# Altium footprint library SAMTEC_TFM-110-21-S-D.PcbLib: 1 footprints
Each footprint in its own frame and in the unit in brackets; x right, y up, seen from the top. Pads: shape width x height; smd on the part's side, far side on the other; paste and mask are expansions set on the pad; w line width, h text height; cw(c..) or ccw(c..) is an arc to the next point about the centre after c.
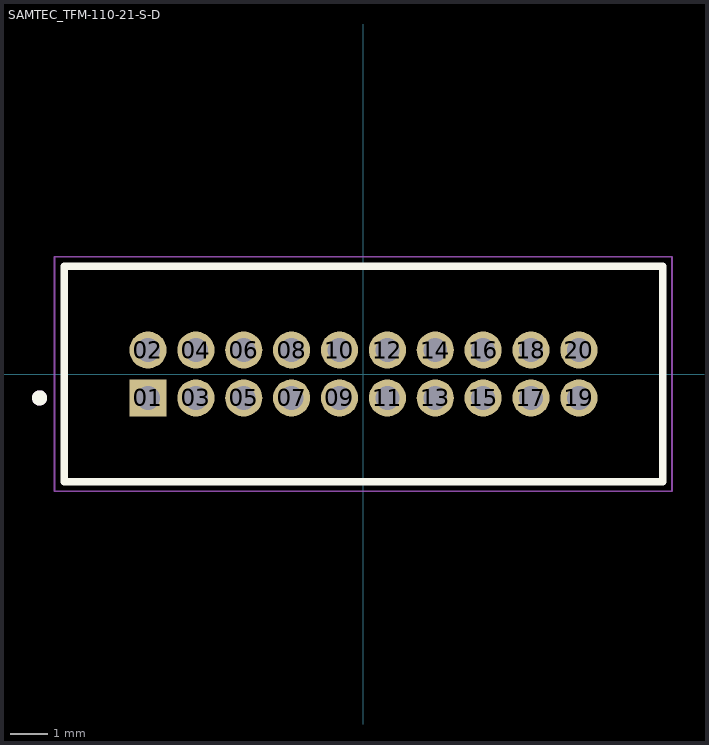
[diagram p0: the footprint, top view; thin cyan lines are the x and y axes]

## SAMTEC_TFM-110-21-S-D [mm]
pads (20):
  rect 0.985x0.985 hole 0.635: 01(-5.715,-0.635)
  round 0.985 hole 0.635: 02(-5.715,0.635) 03(-4.445,-0.635) 04(-4.445,0.635) 05(-3.175,-0.635) 06(-3.175,0.635) 07(-1.905,-0.635) 08(-1.905,0.635) 09(-0.635,-0.635) 10(-0.635,0.635) 11(0.635,-0.635) 12(0.635,0.635) 13(1.905,-0.635) 14(1.905,0.635) 15(3.175,-0.635) 16(3.175,0.635) 17(4.445,-0.635) 18(4.445,0.635) 19(5.715,-0.635) 20(5.715,0.635)
Top Overlay:
  circle w0.2: c-8.59,-0.635 r0.1
  lines w0.2: -7.94,-2.86 -7.94,2.86 7.94,2.86 7.94,-2.86 -7.94,-2.86
Mechanical 13:
  circle w0.2: c-8.59,-0.635 r0.1
  lines w0.1: -7.94,-2.86 -7.94,2.86 ; -7.94,-2.86 7.94,-2.86 ; -7.94,-2.86 -7.94,2.86 ; -7.94,2.86 7.94,2.86 ; -7.94,2.86 7.94,2.86 ; 7.94,-2.86 7.94,2.86 ; 7.94,-2.86 7.94,2.86
Mechanical 15:
  lines w0.05: -8.19,-3.11 -8.19,3.11 8.19,3.11 8.19,-3.11 -8.19,-3.11